# EAGLE library part SN74LVC2G66 (library ds_ic_peripherals)
Dual Bilateral Analog Switch
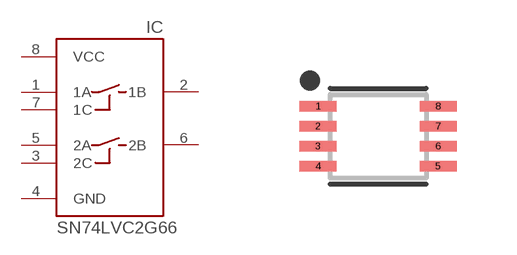
[diagram p39: symbol with the pads of SOP50P310X90-8N; footprint SOP50P310X90-8N]

Designator prefix IC

## SN74LVC2G66  [SOP50P310X90-8N]
1  1A
2  1B
3  2C  in
4  GND  pwr
5  2A
6  2B
7  1C  in
8  VCC  pwr

## Footprint SOP50P310X90-8N (pad centres in mm)
8-SOP, 0.50 mm pitch, 3.10 mm span, 2.00 X 2.30 X 0.90 mm body 8-pin SOP package with 0.50 mm pitch, 3.10 mm span with body size 2.00 X 2.30 X 0.90 mm
smd 0.923 x 0.268: 1 -1.503,0.75; 2 -1.503,0.25; 3 -1.503,-0.25; 4 -1.503,-0.75; 5 1.503,-0.75; 6 1.503,-0.25; 7 1.503,0.25; 8 1.503,0.75